# Altium footprint library bunny_brain_D.PcbLib: 23 footprints (part 1 of 2)
Each footprint in its own frame and in the unit in brackets; x right, y up, seen from the top. Pads: shape width x height; smd on the part's side, far side on the other; paste and mask are expansions set on the pad; w line width, h text height; cw(c..) or ccw(c..) is an arc to the next point about the centre after c.
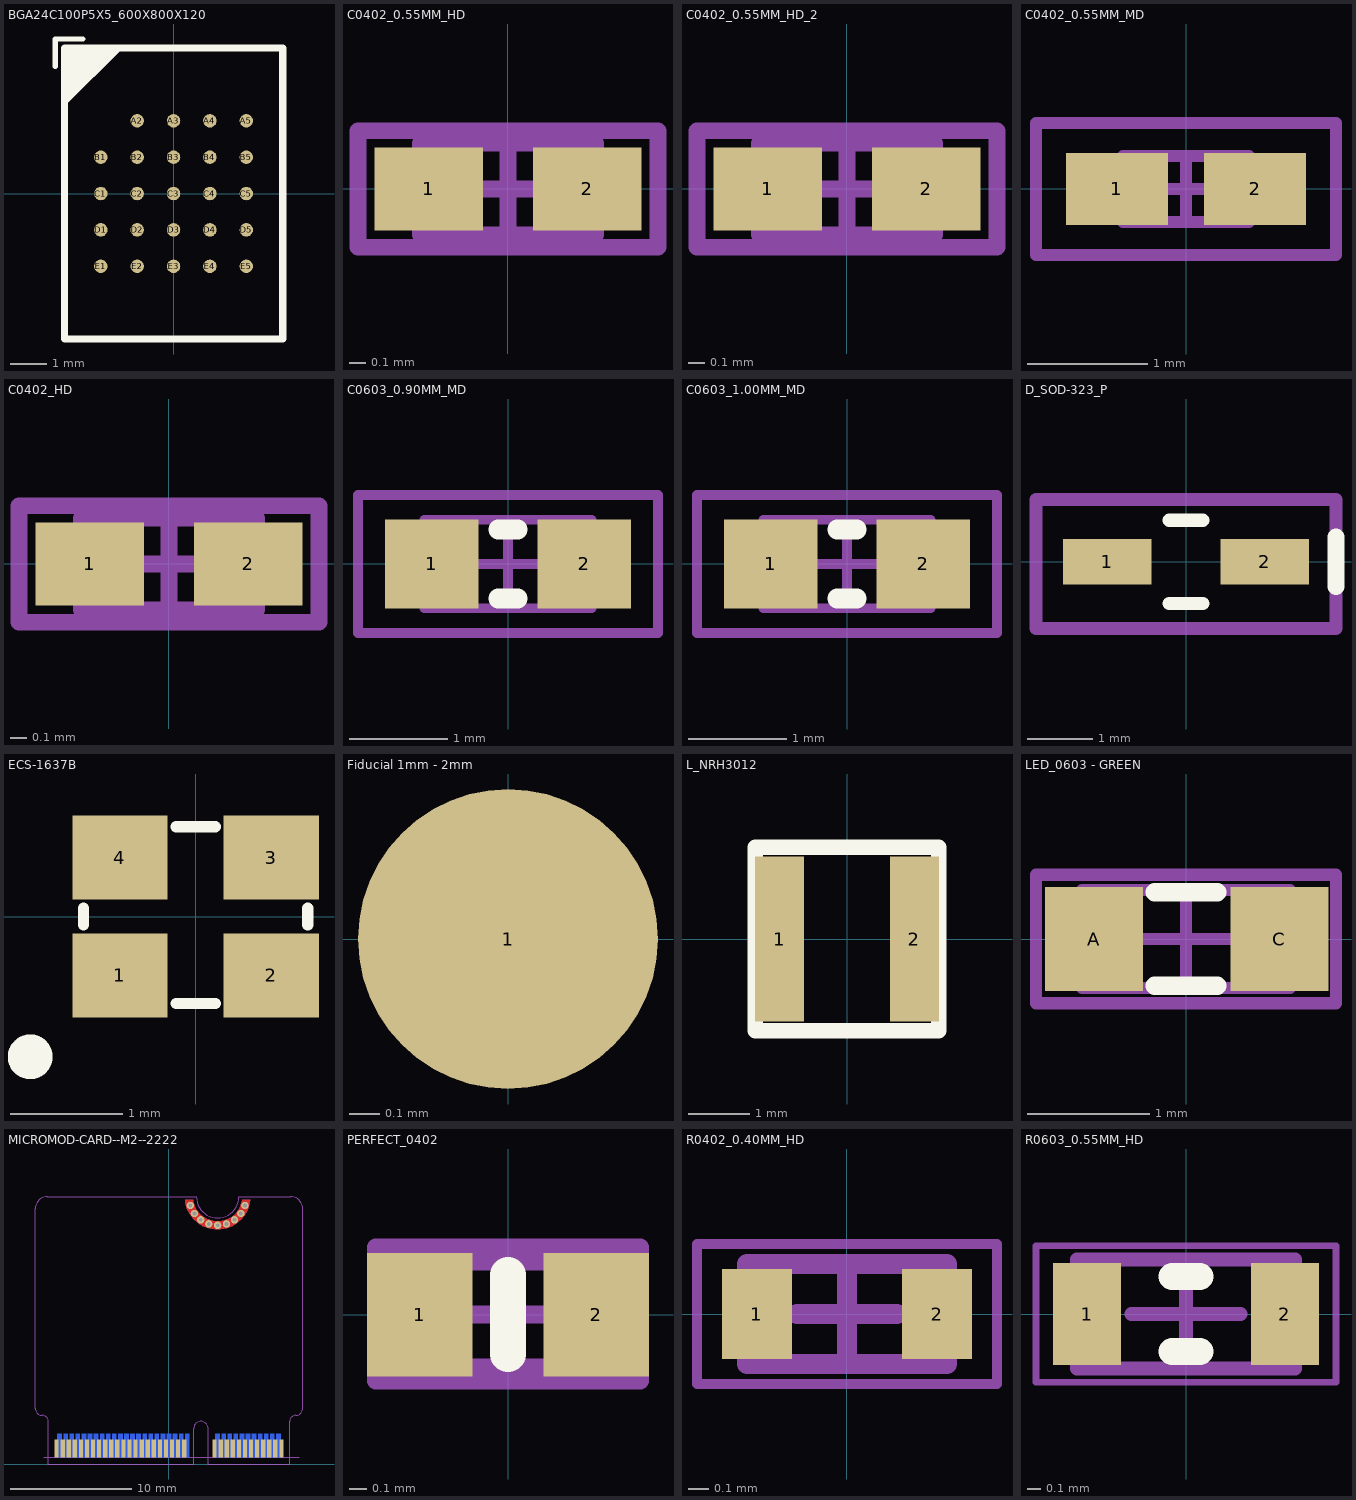
[diagram p0: the footprints below, top view; thin cyan lines are the x and y axes]

## BGA24C100P5X5_600X800X120 [mm]
pads (24):
  round 0.37 smd: A2(-1,2) A3(0,2) A4(1,2) A5(2,2) B1(-2,1) B2(-1,1) B3(0,1) B4(1,1) B5(2,1) C1(-2,0) C2(-1,0) C3(0,0) C4(1,0) C5(2,0) D1(-2,-1) D2(-1,-1) D3(0,-1) D4(1,-1) D5(2,-1) E1(-2,-2) E2(-1,-2) E3(0,-2) E4(1,-2) E5(2,-2)
Top Overlay:
  region: -3,4 -1.4,4 -3,2.4
  lines w0.15: -3.25,3.5 -3.25,4.25 -2.5,4.25
  lines w0.2: -3,-4 -3,4 3,4 3,-4 -3,-4
Mechanical 13:
  lines w0.127: -3,-4 -3,4 3,4 3,-4 -3,-4
3D body "step_temp.STEP": height 1.2, standoff 0, extent -3,-4 3,4

## C0402_0.55MM_HD [mm] "Capacitor 0402 0.55mm Height- High Density"
height 0.5
pads (2):
  rect 0.65x0.5 smd: 1(-0.475,0) 2(0.475,0)
Mechanical 13:
  lines w0.1: -0.525,-0.275 0.525,-0.275 0.525,0.275 -0.525,0.275 -0.525,-0.275
Mechanical 15:
  lines w0.1: -0.275,0 0.275,0 ; 0,-0.275 0,0.275 ; -0.9,-0.35 0.9,-0.35 0.9,0.35 -0.9,0.35 -0.9,-0.35
3D body "0402_0.55mm.STEP": height 0.55, standoff 0, extent -0.525,-0.25 0.475,0.25

## C0402_0.55MM_HD_2 [mm]
pads (2):
  rect 0.65x0.5 smd: 1(-0.475,0) 2(0.475,0)
Mechanical 13:
  lines w0.1: -0.525,-0.275 -0.525,0.275 0.525,0.275 0.525,-0.275 -0.525,-0.275
Mechanical 15:
  lines w0.1: -0.275,0 0.275,0 ; 0,-0.275 0,0.275 ; -0.9,-0.35 -0.9,0.35 0.9,0.35 0.9,-0.35 -0.9,-0.35
3D body "0402_0.55mm.STEP": height 0.55, standoff 0, extent -0.525,-0.25 0.475,0.25

## C0402_0.55MM_MD [mm] "Capacitor - 0402 - Medium Density"
height 0.55
pads (2):
  rect 0.85x0.6 smd: 1(-0.575,0) 2(0.575,0)
Mechanical 13:
  lines w0.1: -0.525,-0.275 -0.525,0.275 0.525,0.275 0.525,-0.275 -0.525,-0.275
Mechanical 15:
  lines w0.1: -0.275,0 0.275,0 ; 0,-0.275 0,0.275 ; -1.25,-0.55 -1.25,0.55 1.25,0.55 1.25,-0.55 -1.25,-0.55
3D body "0402_0.55mm.STEP": height 0.55, standoff 0, extent -0.5,-0.25 0.5,0.25

## C0402_HD [mm] "Capacitor 0402 - High Density"
height 0.3
pads (2):
  rect 0.65x0.5 smd: 1(-0.475,0) 2(0.475,0)
Mechanical 13:
  lines w0.1: -0.525,-0.275 -0.525,0.275 0.525,0.275 0.525,-0.275 -0.525,-0.275
Mechanical 15:
  lines w0.1: -0.275,0 0.275,0 ; 0,-0.275 0,0.275 ; -0.9,-0.35 -0.9,0.35 0.9,0.35 0.9,-0.35 -0.9,-0.35
3D body "CAPC1005X55N EIA 0402.step": height 0.55, standoff 0, extent -0.5,-0.25 0.5,0.25

## C0603_0.90MM_MD [mm] "Capacitor 0603 - Medium Density"
height 0.9
pads (2):
  rect 0.95x0.9 smd: 1(-0.775,0) 2(0.775,0)
Top Overlay:
  lines w0.2: -0.1,-0.35 0.1,-0.35 ; -0.1,0.35 0.1,0.35
Mechanical 13:
  lines w0.1: -0.85,-0.45 0.85,-0.45 0.85,0.45 -0.85,0.45 -0.85,-0.45
Mechanical 15:
  lines w0.1: -0.45,0 0.45,0 ; 0,-0.45 0,0.45 ; -1.525,-0.7 1.525,-0.7 1.525,0.7 -1.525,0.7 -1.525,-0.7
3D body "0603_0.90mm.STEP": height 0.9, standoff 0, extent -0.8,-0.4 0.8,0.4

## C0603_1.00MM_MD [mm] "Capacitor 0603 - Medium Density"
height 0.95
pads (2):
  rect 0.95x0.9 smd: 1(-0.775,0) 2(0.775,0)
Top Overlay:
  lines w0.2: -0.1,-0.35 0.1,-0.35 ; -0.1,0.35 0.1,0.35
Mechanical 13:
  lines w0.1: -0.85,-0.45 -0.85,0.45 0.85,0.45 0.85,-0.45 -0.85,-0.45
Mechanical 15:
  lines w0.1: -0.45,0 0.45,0 ; 0,-0.45 0,0.45 ; -1.525,-0.7 -1.525,0.7 1.525,0.7 1.525,-0.7 -1.525,-0.7
3D body "0603_0.90mm.STEP": height 1, standoff 0.1, extent -0.8,-0.4 0.8,0.4

## D_SOD-323_P [mm] "SOD-123 Diode - Polarized"
height 1.35
pads (2):
  rect 1.35x0.7 smd: 1(-1.2,0) 2(1.2,0)
Top Overlay:
  lines w0.203: -0.254,-0.635 0.254,-0.635 ; -0.254,0.635 0.254,0.635
  lines w0.254: 2.286,-0.381 2.286,0.381
Mechanical 15:
  lines w0.203: -2.286,-1.016 -2.286,0.948 2.286,0.948 2.286,-1.016 -0.084,-1.016 -2.286,-1.016
3D body "SOD-323.step": height 1.1, standoff 0, extent -1.3,-0.675 1.3,0.675

## ECS-1637B [mm]
pads (4):
  rect 0.85x0.75 smd: 1(-0.675,-0.525) 2(0.675,-0.525) 3(0.675,0.525) 4(-0.675,0.525)
Top Overlay:
  circle w0.2: c-1.475,-1.25 r0.1
  lines w0.102: -1,-0.075 -1,0.075 ; -0.175,-0.775 0.175,-0.775 ; -0.175,0.8 0.175,0.8 ; 1,-0.075 1,0.075
3D body "ECS-240-12-37B-CKY-TR.STEP": height 0.5, standoff 0, extent -1,-0.775 1,0.825

## Fiducial 1mm - 2mm [mm] "1mm Pad 2mm Opening"
height 3.1
pads (1):
  round 1 smd paste-10 mask+0.5: 1(0,0)

## L_NRH3012 [mm] "Inductor"
height 1.2
pads (2):
  rect 0.8x2.7 smd: 1(-1.1,0) 2(1.1,0)
Top Overlay:
  lines w0.254: -1.5,-1.5 1.5,-1.5 1.5,1.5 -1.5,1.5 -1.5,-1.5
3D body: height 1.2, standoff 0.05, extent -1.5,-1.5 1.5,1.5

## LED_0603 - GREEN [mm] "LED_0603 - GREEN"
height 0.8
pads (2):
  rect 0.8x0.85 smd: A(-0.75,0) C(0.762,0)
Top Overlay:
  lines w0.15: -0.254,-0.381 0.254,-0.381 ; -0.254,0.381 0.254,0.381
Mechanical 13:
  lines w0.1: -0.85,-0.4 0.85,-0.4 0.85,0.4 -0.85,0.4
Mechanical 15:
  lines w0.1: -0.4,0 0.4,0 ; 0,-0.4 0,0.4 ; -1.225,-0.525 1.225,-0.525 1.225,0.525 -1.225,0.525 -1.225,-0.525
3D body "APT1608.stp": height 0.76, standoff 0.01, extent -0.801,-0.4 0.81,0.4

## MICROMOD-CARD--M2--2222 [mm] "Micromod board outline with card edge fingers"
pads (76):
  rect 0.35x1.45 smd paste+0 mask+0: 1(9.25,1.275) 3(8.75,1.275) 5(8.25,1.275) 7(7.75,1.275) 9(7.25,1.275) 11(6.75,1.275) 13(6.25,1.275) 15(5.75,1.275) 17(5.25,1.275) 19(4.75,1.275) 21(4.25,1.275) 23(3.75,1.275) 33(1.25,1.275) 35(0.75,1.275) 37(0.25,1.275) 39(-0.25,1.275) 41(-0.75,1.275) 43(-1.25,1.275) 45(-1.75,1.275) 47(-2.25,1.275) 49(-2.75,1.275) 51(-3.25,1.275) 53(-3.75,1.275) 55(-4.25,1.275) 57(-4.75,1.275) 59(-5.25,1.275) 61(-5.75,1.275) 63(-6.25,1.275) 65(-6.75,1.275) 67(-7.25,1.275) 69(-7.75,1.275) 71(-8.25,1.275) 73(-8.75,1.275) 75(-9.25,1.275)
  rect 0.35x1.95 smd far side paste+0 mask+0: 2(9,1.525) 4(8.5,1.525) 6(8,1.525) 8(7.5,1.525) 10(7,1.525) 12(6.5,1.525) 14(6,1.525) 16(5.5,1.525) 18(5,1.525) 20(4.5,1.525) 22(4,1.525) 32(1.5,1.525) 34(1,1.525) 36(0.5,1.525) 38(0,1.525) 40(-0.5,1.525) 42(-1,1.525) 44(-1.5,1.525) 46(-2,1.525) 48(-2.5,1.525) 50(-3,1.525) 52(-3.5,1.525) 54(-4,1.525) 56(-4.5,1.525) 58(-5,1.525) 60(-5.5,1.525) 62(-6,1.525) 64(-6.5,1.525) 66(-7,1.525) 68(-7.5,1.525) 70(-8,1.525) 72(-8.5,1.525)
  rect 0.35x1.95 smd far side paste+0: 74(-9,1.525)
  round 0.61 / inner round 0.708 / far side round 0.61 hole 0.305: SCREW(1.755,21.271) SCREW(2.09,20.611) SCREW(2.611,20.089) SCREW(3.271,19.755) SCREW(4,19.638) SCREW(4.729,19.755) SCREW(5.389,20.089) SCREW(5.91,20.611) SCREW(6.245,21.271)
Top Layer:
  region: 1.32,21.746 1.343,21.498 1.48,21.019 1.703,20.573 2.004,20.176 2.373,19.841 2.796,19.579 3.261,19.399 3.751,19.308 4.249,19.308 4.739,19.399 5.204,19.579 5.627,19.841 5.996,20.176 6.297,20.573 6.52,21.019 6.657,21.498 6.68,21.746 6.016,21.746 5.985,21.565 5.875,21.215 5.703,20.891 5.476,20.603 5.201,20.361 4.887,20.172 4.544,20.042 4.183,19.976 3.817,19.976 3.456,20.042 3.113,20.172 2.799,20.361 2.524,20.603 2.297,20.891 2.126,21.215 2.015,21.565 1.984,21.746
Bottom Layer:
  region: 1.32,21.746 1.343,21.498 1.48,21.019 1.703,20.573 2.004,20.176 2.373,19.841 2.796,19.579 3.261,19.399 3.751,19.308 4.249,19.308 4.739,19.399 5.204,19.579 5.627,19.841 5.996,20.176 6.297,20.573 6.52,21.019 6.657,21.498 6.68,21.746 6.016,21.746 5.985,21.565 5.875,21.215 5.703,20.891 5.476,20.603 5.201,20.361 4.887,20.172 4.544,20.042 4.183,19.976 3.817,19.976 3.456,20.042 3.113,20.172 2.799,20.361 2.524,20.603 2.297,20.891 2.126,21.215 2.015,21.565 1.984,21.746
Top Solder:
  rectangle: -9.925,0 9.925,2
  region: 1.308,22 1.307,21.788 1.372,21.369 1.503,20.966 1.694,20.588 1.943,20.245 2.242,19.945 2.585,19.695 2.962,19.502 3.365,19.371 3.783,19.304 4.207,19.304 4.626,19.37 5.029,19.501 5.407,19.693 5.749,19.942 6.049,20.242 6.298,20.585 6.49,20.963 6.621,21.366 6.687,21.784 6.687,21.996 5.747,21.996 5.739,21.825 5.672,21.488 5.541,21.17 5.351,20.885 5.109,20.642 4.823,20.451 4.506,20.319 4.169,20.252 3.826,20.252 3.489,20.319 3.172,20.451 2.887,20.642 2.644,20.885 2.454,21.171 2.323,21.488 2.257,21.825 2.249,21.997
  lines w0.025: 1.308,22 ccw(c3.997,21.993) 6.687,21.996 5.747,21.996 cw(c3.998,21.993) 2.249,21.997 1.308,22
Bottom Solder:
  rectangle: -9.925,0 9.925,2.5
  region: 1.298,21.997 1.297,21.785 1.362,21.366 1.493,20.963 1.684,20.585 1.933,20.241 2.232,19.941 2.574,19.692 2.952,19.499 3.355,19.367 3.773,19.301 4.197,19.301 4.616,19.367 5.019,19.497 5.396,19.69 5.739,19.939 6.039,20.239 6.288,20.582 6.48,20.959 6.611,21.363 6.677,21.781 6.676,21.993 5.737,21.993 5.729,21.821 5.662,21.484 5.531,21.167 5.341,20.881 5.098,20.638 4.813,20.447 4.496,20.316 4.159,20.249 3.816,20.249 3.479,20.316 3.162,20.448 2.877,20.639 2.634,20.882 2.444,21.167 2.313,21.485 2.247,21.822 2.239,21.993
Bottom Assembly:
  lines w0.02: -10.3,0.55 10.7,0.55
Mechanical 8:
  lines w0.05: -11,4.575 ccw(c-10.425,4.575) -10.425,4 ; -11,21 cw(c-10,21) -10,22 ; 10,22 cw(c10,21) 11,21 11,4.575 cw(c10.425,4.575) 10.425,4
  lines w0.051: -11,4.575 -11,21 ; -10.425,4 cw(c-10.425,3.5) -9.925,3.5 -9.925,0 2.025,0 2.025,2.9 cw(c2.625,2.9) 3.225,2.9 3.225,0 9.925,0 9.925,3.5 cw(c10.425,3.5) 10.425,4 ; -10,22 2.25,22 ccw(c4,22) 5.75,22 10,22

## PERFECT_0402 [mm] "https://www.worthingtonassembly.com/perfect-0402-footprint"
height 3.1
pads (2):
  rect 0.6x0.7 smd: 1(-0.5,0) 2(0.5,0)
Top Overlay:
  lines w0.203: 0,-0.225 0,0.225
Mechanical 13:
  lines w0.1: -0.55,-0.3 0.55,-0.3 0.55,0.3 -0.55,0.3 -0.55,-0.3
Mechanical 15:
  lines w0.1: -0.3,0 0.3,0 ; 0,-0.3 0,0.3 ; -0.75,-0.375 0.75,-0.375 0.75,0.381 -0.75,0.381 -0.75,-0.375
3D body "User Library-cap_0402.step": height 0.5, standoff 0, extent -0.5,-0.25 0.5,0.25

## R0402_0.40MM_HD [mm] "Resistor 0402 High Density"
height 0.4
pads (2):
  rect 0.35x0.45 smd: 1(-0.45,0) 2(0.45,0)
Mechanical 13:
  lines w0.1: -0.5,-0.25 -0.5,0.25 0.5,0.25 0.5,-0.25 -0.5,-0.25
Mechanical 15:
  lines w0.05: -0.75,-0.35 -0.75,0.35 0.75,0.35 0.75,-0.35 -0.75,-0.35
  lines w0.1: -0.25,0 0.25,0 ; 0,-0.25 0,0.25
3D body "RESC1005X04L.step": height 0.4, standoff 0, extent -0.5,-0.25 0.5,0.25

## R0603_0.55MM_HD [mm] "Resistor 0603 High Density"
height 0.55
pads (2):
  rect 0.5x0.75 smd: 1(-0.725,0) 2(0.725,0)
Top Overlay:
  lines w0.2: -0.1,-0.275 0.1,-0.275 ; -0.1,0.275 0.1,0.275
Mechanical 13:
  lines w0.1: -0.8,-0.4 0.8,-0.4 0.8,0.4 -0.8,0.4 -0.8,-0.4
Mechanical 15:
  lines w0.05: -1.1,-0.5 1.1,-0.5 1.1,0.5 -1.1,0.5 -1.1,-0.5
  lines w0.1: -0.4,0 0.4,0 ; 0,-0.4 0,0.4
3D body "RESC1608X06L.step": height 0.55, standoff 0, extent -0.8,-0.4 0.8,0.4